# EAGLE library part MCP2518FDT-H_SL (library MCP2518FDT-H_SL)
CAN Interface IC Stand-alone Low Power CAN FD Controller w/SPI Interface Grade0 Source: Datasheet <https://datasheet.datasheetarchive.com/originals/distributors/Datasheets_SAMA/744760637e861ab0ee43f380fa65a694.pdf>
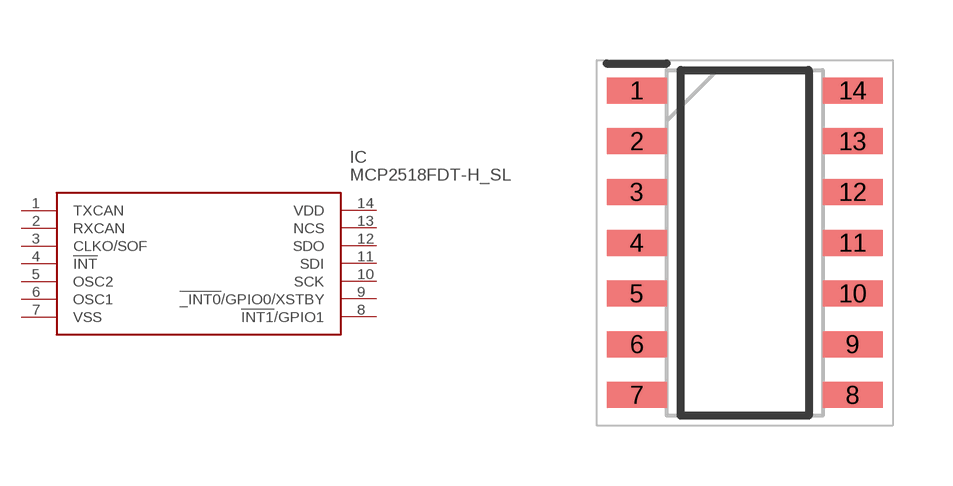
[diagram p0: symbol with the pads of SOIC127P600X175-14N; footprint SOIC127P600X175-14N]

Designator prefix IC

## MCP2518FDT-H_SL (Description: CAN Interface IC Stand-alone Low Power CAN FD Controller w/SPI Interface Grade0; Height: 1.75mm; Manufacturer_Name: Microchip; Manufacturer_Part_Number: MCP2518FDT-H/SL; Mouser_Part_Number: 579-MCP2518FDT-H/SL; Mouser_Price-Stock: https://www.mouser.co.uk/ProductDetail/Microchip-Technology/MCP2518FDT-H-SL?qs=T3oQrply3y91PFfynJbKYg%3D%3D)  [SOIC127P600X175-14N]
1  TXCAN
2  RXCAN
3  CLKO/SOF
4  !INT
5  OSC2
6  OSC1
7  VSS
8  !INT1!/GPIO1
9  !_INT0!/GPIO0/XSTBY
10  SCK
11  SDI
12  SDO
13  NCS
14  VDD

## Footprint SOIC127P600X175-14N (pad centres in mm)
14-LEAD PSO (SL) - NARROW, 3.9MM [SOIC]
smd 1.5 x 0.65: 1 -2.7,3.81; 2 -2.7,2.54; 3 -2.7,1.27; 4 -2.7,0; 5 -2.7,-1.27; 6 -2.7,-2.54; 7 -2.7,-3.81; 8 2.7,-3.81; 9 2.7,-2.54; 10 2.7,-1.27; 11 2.7,0; 12 2.7,1.27; 13 2.7,2.54; 14 2.7,3.81